# Altium schematic symbol library mcp3914ba1t-e_mv.SchLib: 1 symbol
Pins are listed as number, name and electrical type; pins without a type are passive.

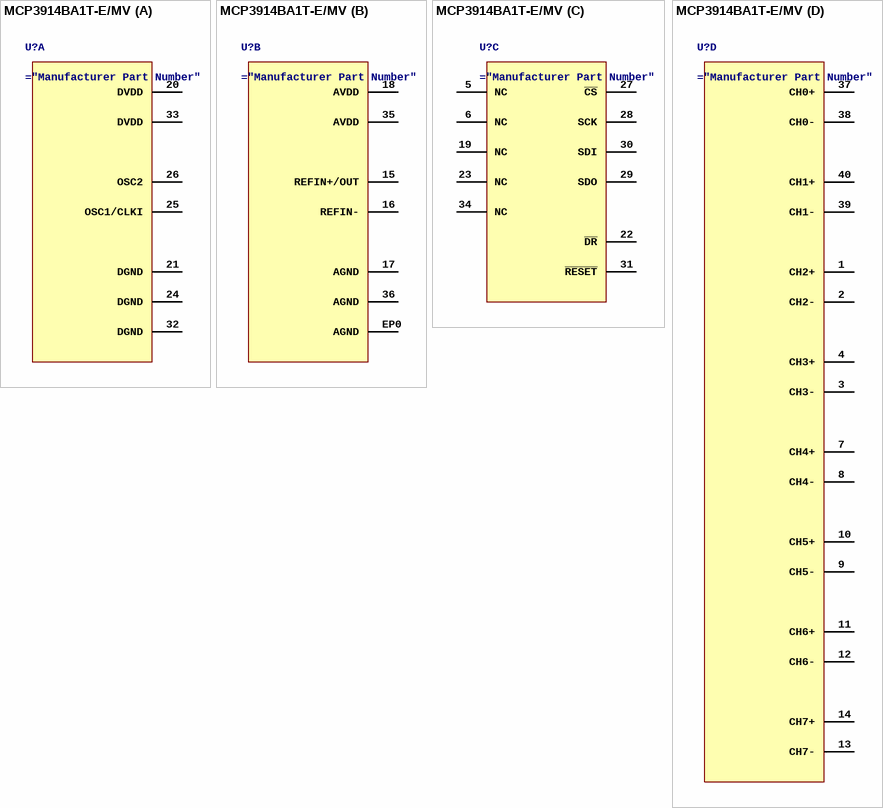
[diagram p0: symbol MCP3914BA1T-E/MV]

## MCP3914BA1T-E/MV
designator U?
8 Channel AFE 24 Bit 40-UQFN (5x5)
part A pins: 20 DVDD, 21 DGND, 24 DGND, 25 OSC1/CLKI, 26 OSC2, 32 DGND, 33 DVDD
part B pins: 15 REFIN+/OUT, 16 REFIN-, 17 AGND, 18 AVDD, 35 AVDD, 36 AGND, EP0 AGND
part C pins: 5 NC, 6 NC, 19 NC, 22 ~{DR}, 23 NC, 27 ~{CS}, 28 SCK, 29 SDO, 30 SDI, 31 ~{RESET}, 34 NC
part D pins: 1 CH2+, 2 CH2-, 3 CH3-, 4 CH3+, 7 CH4+, 8 CH4-, 9 CH5-, 10 CH5+, 11 CH6+, 12 CH6-, 13 CH7-, 14 CH7+, 37 CH0+, 38 CH0-, 39 CH1-, 40 CH1+